# Altium schematic symbol library Discrete.SchLib: 5 symbols
Pins are listed as number, name and electrical type; pins without a type are passive.

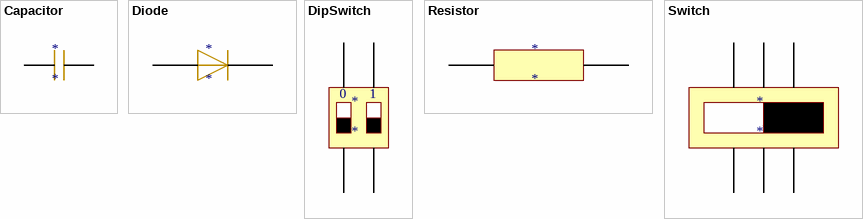
[diagram p0: symbols Capacitor to Switch]

## Capacitor
designator *
Capacity: 10nF
footprint CAPC3216N (Chip Capacitor, Body 3.2x1.6mm, IPC Medium Density); pin to pad CAP_PIN_0>1 CAP_PIN_1>2
pins: CAP_PIN_0, CAP_PIN_1

## Diode
designator *
Type: 1n4148
footprint AXIAL-0.3; pin to pad DIODE_PIN_NEG>1 DIODE_PIN_POS>2
pins: DIODE_PIN_NEG -, DIODE_PIN_POS +

## DipSwitch
designator *
footprint DPST-4; pin to pad DIPSW_0_0>2 DIPSW_0_1>3 DIPSW_1_0>1 DIPSW_1_1>4
pins: DIPSW_0_0, DIPSW_0_1, DIPSW_1_0, DIPSW_1_1
text: 0; 1

## Resistor
designator *
Resistance: 10K
footprint AXIAL-0.3; pin to pad RES_PIN_0>2 RES_PIN_1>1
pins: RES_PIN_0 2, RES_PIN_1 1

## Switch
designator *
footprint DPDT-6; pin to pad SWITCH_A1>3 SWITCH_A2>4 SWITCH_B1>1 SWITCH_B2>6 SWITCH_C1>2 SWITCH_C2>5
pins: SWITCH_A1, SWITCH_A2, SWITCH_B1, SWITCH_B2, SWITCH_C1, SWITCH_C2